# Altium footprint library SPE_router_lib.PcbLib: 17 footprints (part 2 of 2)
Each footprint in its own frame and in the unit in brackets; x right, y up, seen from the top. Pads: shape width x height; smd on the part's side, far side on the other; paste and mask are expansions set on the pad; w line width, h text height; cw(c..) or ccw(c..) is an arc to the next point about the centre after c.
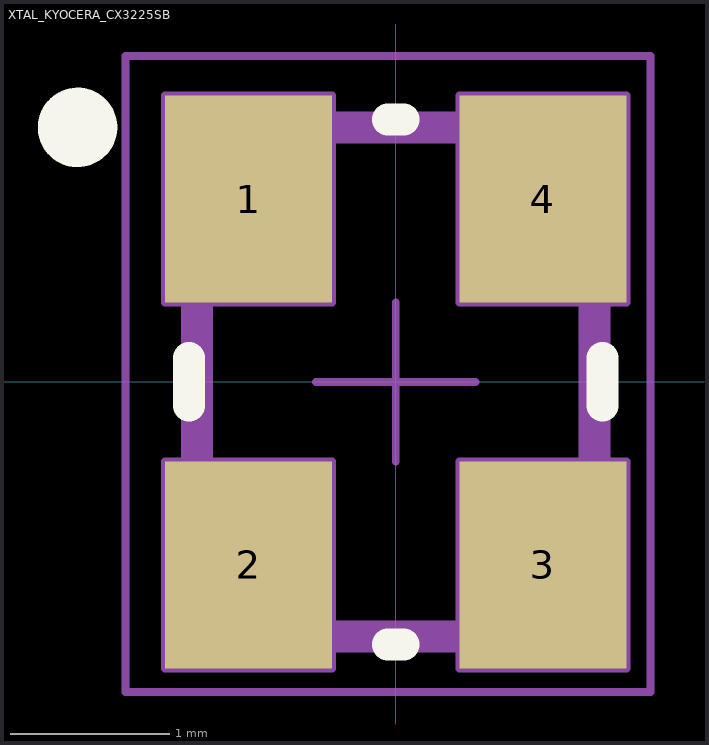
[diagram p1: the footprint, top view; thin cyan lines are the x and y axes]

## XTAL_KYOCERA_CX3225SB [mm] "SMD Crystal Kyocera, 4 Pin, 3.2mm L X 2.5mm W X 0.6mm H"
height 0.6
pads (4):
  rect 1.05x1.3 smd: 1(-0.925,1.15) 2(-0.925,-1.15) 3(0.925,-1.15) 4(0.925,1.15)
Top Overlay:
  circle w0.25: c-2,1.6 r0.125
  lines w0.2: -1.3,-0.15 -1.3,0.15 ; -0.05,-1.65 0.05,-1.65 ; -0.05,1.65 0.05,1.65 ; 1.3,-0.15 1.3,0.15
Mechanical 8:
  lines w0.05: -1.425,-1.15 -0.925,-1.15 ; -1.425,1.15 -0.925,1.15 ; -0.925,-1.65 -0.925,-1.15 ; -0.925,-0.65 -0.925,-1.15 ; -0.925,0.65 -0.925,1.15 ; -0.925,1.65 -0.925,1.15 ; -0.5,0 0,0 ; -0.425,-1.15 -0.925,-1.15 ; -0.425,1.15 -0.925,1.15 ; 0,-0.5 0,0 ; 0,0.5 0,0 ; 0.425,-1.15 0.925,-1.15 ; 0.425,1.15 0.925,1.15 ; 0.5,0 0,0 ; 0.925,-1.65 0.925,-1.15 ; 0.925,-0.65 0.925,-1.15 ; 0.925,0.65 0.925,1.15 ; 0.925,1.65 0.925,1.15 ; 1.425,-1.15 0.925,-1.15 ; 1.425,1.15 0.925,1.15 ; -1.45,-1.8 -0.4,-1.8 -0.4,-0.5 -1.45,-0.5 -1.45,-1.8 ; -1.45,0.5 -1.45,1.8 -0.4,1.8 -0.4,0.5 -1.45,0.5 ; 0.4,-1.8 1.45,-1.8 1.45,-0.5 0.4,-0.5 0.4,-1.8 ; 0.4,0.5 1.45,0.5 1.45,1.8 0.4,1.8 0.4,0.5
Mechanical 14:
  lines w0.1: -1.3,-1.45 cw(c-1.3,-1.65) -1.1,-1.65 1.1,-1.65 cw(c1.3,-1.65) 1.3,-1.45 1.3,1.45 cw(c1.3,1.65) 1.1,1.65 -1.1,1.65 cw(c-1.3,1.65) -1.3,1.45 -1.3,-1.45 ; -1.2,-1.15 ccw(c-0.8,-1.15) -0.8,-1.55 0.8,-1.55 ccw(c0.8,-1.15) 1.2,-1.15 1.2,1.15 ccw(c0.8,1.15) 0.8,1.55 -0.8,1.55 ccw(c-0.8,1.15) -1.2,1.15 -1.2,-1.15
Mechanical 15:
  lines w0.05: -1.7,-1.95 -1.7,2.05 1.6,2.05 1.6,-1.95 -1.7,-1.95
3D body "XTAL_KYOCERA_CX3225SB.stp": height 0.6, standoff 0, extent -1.3,-1.65 1.3,1.65